# EAGLE library part DAC_LTC2630 (library Cerebro-library)
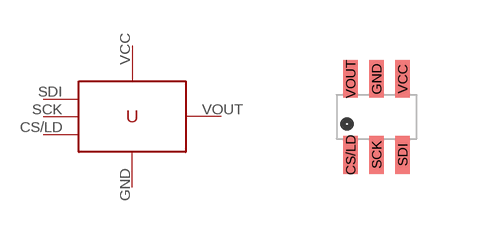
[diagram p0: symbol with the pads of SC-70; footprint SC-70]

Designator prefix U

## DAC_LTC2630  [SC-70]
CS/LD  CS/LD
GND  GND
SCK  SCK
SDI  SDI
VCC  VIN
VOUT  VOUT

## Footprint SC-70 (pad centres in mm)
smd 0.36 x 0.95: CS/LD -0.65,-0.95; GND 0,0.95; SCK 0,-0.95; SDI 0.65,-0.95; VCC 0.65,0.95; VOUT -0.65,0.95